# Altium schematic symbol library VLSI_CAD.SchLib: 14 symbols
Pins are listed as number, name and electrical type; pins without a type are passive.

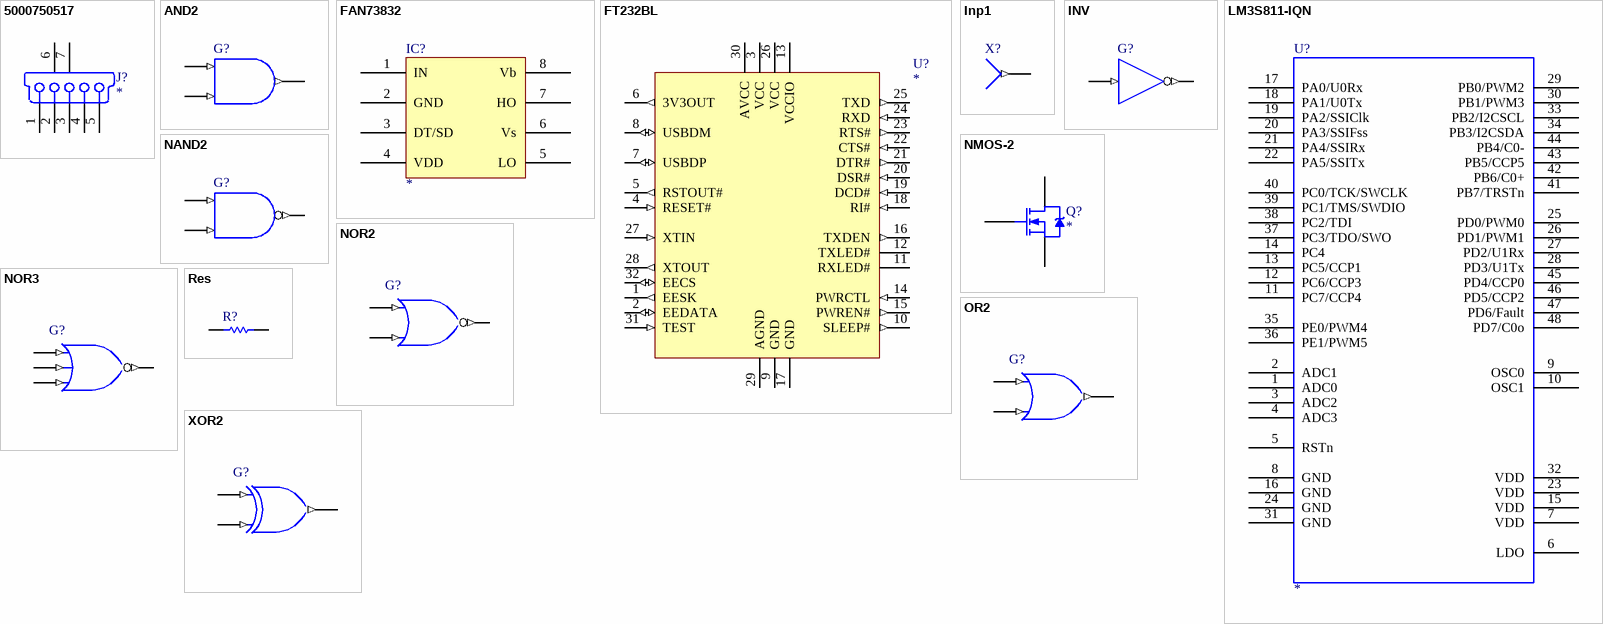
[diagram p0: symbols 5000750517 to XOR2]

## 5000750517
designator J?
USB On-The-Go (OTG) Mini-B Receptacle, Right Angle, Thru-Hole, 0.80mm (.031") Pitch, Solder Tails & Shell Tabs with Dimples; Published: *; DatasheetVersion: *; PackageVersion: *; PackageReference: *; Publisher: *; PackageDescription: *; PCB_Layout: *; ComponentLink1Description: *; ComponentLink1URL: *; ComponentLink2Description: *; ComponentLink2URL: *
footprint 5000750517
pins: 1 V BUS, 2 D-, 3 D+, 4 ID, 5 GND, 6 MH1, 7 MH2
2 alternate drawings of the same symbol

## AND2
designator G?  (value not drawn)
2-Input AND
pins: A (in), B (in), Y (out)
2 alternate drawings of the same symbol

## FAN73832
designator IC?
Half-Bridge Gate-Drive IC
pins: 1 IN, 2 GND, 3 DT/SD, 4 VDD, 5 LO, 6 Vs, 7 HO, 8 Vb
2 alternate drawings of the same symbol

## FT232BL
designator U?
USB UART Asynchronous Serial Data Transfer Chip, LQFP-32, Pb-Free; Published: *; LatestRevisionDate: *; LatestRevisionNote: *; DatasheetVersion: *; PackageVersion: *; PackageReference: *; Publisher: *; PackageDescription: *; ComponentLink1Description: *; ComponentLink1URL: *; ComponentLink2Description: *; ComponentLink2URL: *
footprint LQFP-32_N
footprint LQFP-32_L
footprint LQFP-32_M
pins: 1 EESK (out), 2 EEDATA (io), 3 VCC (power), 4 RESET# (in), 5 RSTOUT# (out), 6 3V3OUT (out), 7 USBDP (io), 8 USBDM (io), 9 GND (power), 10 SLEEP# (out), 11 RXLED# (oc), 12 TXLED# (oc), 13 VCCIO (power), 14 PWRCTL (in), 15 PWREN# (out), 16 TXDEN (out), 17 GND (power), 18 RI# (in), 19 DCD# (in), 20 DSR# (in), 21 DTR# (out), 22 CTS# (in), 23 RTS# (out), 24 RXD (in), 25 TXD (out), 26 VCC (power), 27 XTIN (in), 28 XTOUT (out), 29 AGND (power), 30 AVCC (power), 31 TEST (in), 32 EECS (io)
2 alternate drawings of the same symbol

## Inp1
designator X?  (value not drawn)
Inp1
footprint PIN1
pins: Y (out)
2 alternate drawings of the same symbol

## INV
designator G?  (value not drawn)
INV
pins: A (in), Y (out)
2 alternate drawings of the same symbol

## LM3S811-IQN
designator U?
Stellaris ARM Cortex-M3 Microcontroller; MFG: *; Ordering: *; LMI Class: *
footprint QFP50P900X900X160-48N
pins: 1 ADC0, 2 ADC1, 3 ADC2, 4 ADC3, 5 RSTn, 6 LDO, 7 VDD, 8 GND, 9 OSC0, 10 OSC1, 11 PC7/CCP4, 12 PC6/CCP3, 13 PC5/CCP1, 14 PC4, 15 VDD, 16 GND, 17 PA0/U0Rx, 18 PA1/U0Tx, 19 PA2/SSIClk, 20 PA3/SSIFss, 21 PA4/SSIRx, 22 PA5/SSITx, 23 VDD, 24 GND, 25 PD0/PWM0, 26 PD1/PWM1, 27 PD2/U1Rx, 28 PD3/U1Tx, 29 PB0/PWM2, 30 PB1/PWM3, 31 GND, 32 VDD, 33 PB2/I2CSCL, 34 PB3/I2CSDA, 35 PE0/PWM4, 36 PE1/PWM5, 37 PC3/TDO/SWO, 38 PC2/TDI, 39 PC1/TMS/SWDIO, 40 PC0/TCK/SWCLK, 41 PB7/TRSTn, 42 PB6/C0+, 43 PB5/CCP5, 44 PB4/C0-, 45 PD4/CCP0, 46 PD5/CCP2, 47 PD6/Fault, 48 PD7/C0o
2 alternate drawings of the same symbol

## NAND2
designator G?  (value not drawn)
2-Input NAND
pins: A (in), B (in), Y (out)
2 alternate drawings of the same symbol

## NMOS-2
designator Q?
N-Channel Power MOSFET; Published: *; LatestRevisionDate: *; LatestRevisionNote: *; DatasheetVersion: *; PackageReference: *; Publisher: *; Note: *; Code_JEDEC: *; ComponentLink1Description: *; ComponentLink1URL: *
footprint SFM-T3/A4.7V
pins: 1 G, 2 D, 3 S
2 alternate drawings of the same symbol

## NOR2
designator G?  (value not drawn)
2-Input NOR
pins: 1 (in), 2 (in), Y (out)
2 alternate drawings of the same symbol

## NOR3
designator G?  (value not drawn)
3-Input NOR
pins: A (in), B (in), C (in), Y (out)
2 alternate drawings of the same symbol

## OR2
designator G?  (value not drawn)
2-Input OR
pins: A (in), B (in), Y (out)
2 alternate drawings of the same symbol

## Res
designator R?  (value not drawn)
Resistor
pins: 1, 2

## XOR2
designator G?  (value not drawn)
2-Input XOR
pins: A (in), B (in), Y (out)
2 alternate drawings of the same symbol